# Altium schematic symbol library CRYSTAL_6x3.5_16MHz.SchLib: 1 symbol
Pins are listed as number, name and electrical type; pins without a type are passive.

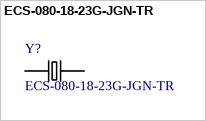
[diagram p0: symbol ECS-080-18-23G-JGN-TR]

## ECS-080-18-23G-JGN-TR
designator Y?
Crystal 8.0000mhz 18pf Smd; MF: ECS International; Price: None; Availability: Unavailable; SnapEDA_Link: https://www.snapeda.com/parts/ECS-080-18-23G-JGN-TR/ECS%20Inc./view-part/?ref=snap; MP: ECS-080-18-23G-JGN-TR; Package: SMD-2 ECS International; Value: *
footprint XTAL_ECS-080-18-23G-JGN-TR
pins: 1, 2